# EAGLE library part STK-7125 (library ic)
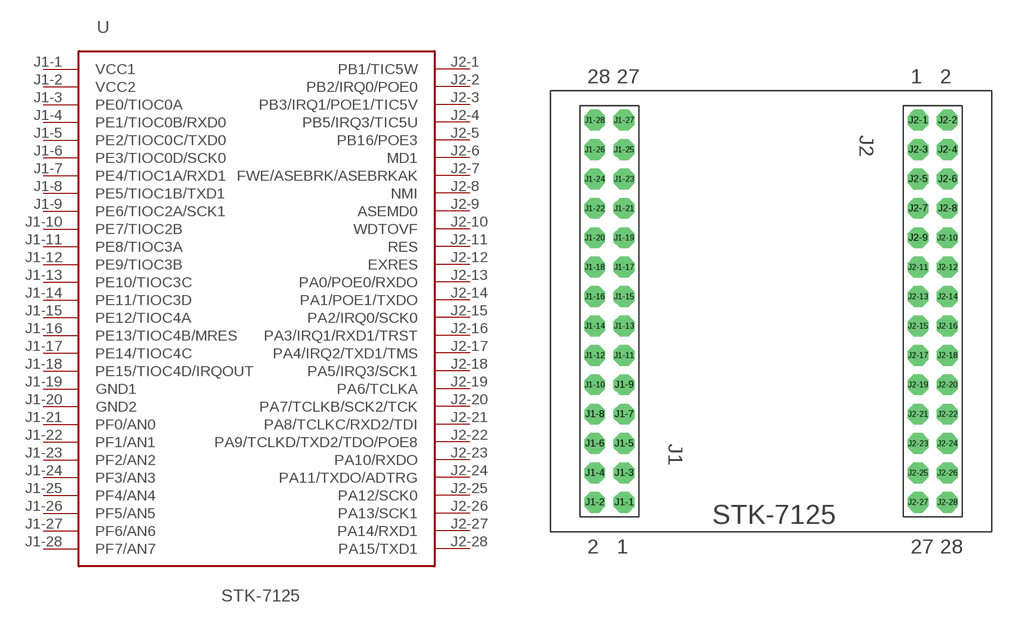
[diagram p6: symbol with the pads of STK-7125; footprint STK-7125]

Designator prefix -

## STK-7125  [STK-7125]
J1-1  VCC1  pwr
J1-2  VCC2  pwr
J1-3  PE0/TIOC0A
J1-4  PE1/TIOC0B/RXD0
J1-5  PE2/TIOC0C/TXD0
J1-6  PE3/TIOC0D/SCK0
J1-7  PE4/TIOC1A/RXD1
J1-8  PE5/TIOC1B/TXD1
J1-9  PE6/TIOC2A/SCK1
J1-10  PE7/TIOC2B
J1-11  PE8/TIOC3A
J1-12  PE9/TIOC3B
J1-13  PE10/TIOC3C
J1-14  PE11/TIOC3D
J1-15  PE12/TIOC4A
J1-16  PE13/TIOC4B/MRES
J1-17  PE14/TIOC4C
J1-18  PE15/TIOC4D/IRQOUT
J1-19  GND1  pwr
J1-20  GND2  pwr
J1-21  PF0/AN0
J1-22  PF1/AN1
J1-23  PF2/AN2
J1-24  PF3/AN3
J1-25  PF4/AN4
J1-26  PF5/AN5
J1-27  PF6/AN6
J1-28  PF7/AN7
J2-1  PB1/TIC5W
J2-2  PB2/IRQ0/POE0
J2-3  PB3/IRQ1/POE1/TIC5V
J2-4  PB5/IRQ3/TIC5U
J2-5  PB16/POE3
J2-6  MD1
J2-7  FWE/ASEBRK/ASEBRKAK
J2-8  NMI
J2-9  ASEMD0
J2-10  WDTOVF
J2-11  RES
J2-12  EXRES
J2-13  PA0/POE0/RXDO
J2-14  PA1/POE1/TXDO
J2-15  PA2/IRQ0/SCK0
J2-16  PA3/IRQ1/RXD1/TRST
J2-17  PA4/IRQ2/TXD1/TMS
J2-18  PA5/IRQ3/SCK1
J2-19  PA6/TCLKA
J2-20  PA7/TCLKB/SCK2/TCK
J2-21  PA8/TCLKC/RXD2/TDI
J2-22  PA9/TCLKD/TXD2/TDO/POE8
J2-23  PA10/RXDO
J2-24  PA11/TXDO/ADTRG
J2-25  PA12/SCK0
J2-26  PA13/SCK1
J2-27  PA14/RXD1
J2-28  PA15/TXD1

## Footprint STK-7125 (pad centres in mm)
drill 0.8 pad 1.8 octagon: J1-1 -12.7,-16.51; J1-2 -15.24,-16.51; J1-3 -12.7,-13.97; J1-4 -15.24,-13.97; J1-5 -12.7,-11.43; J1-6 -15.24,-11.43; J1-7 -12.7,-8.89; J1-8 -15.24,-8.89; J1-9 -12.7,-6.35; J1-10 -15.24,-6.35; J1-11 -12.7,-3.81; J1-12 -15.24,-3.81; J1-13 -12.7,-1.27; J1-14 -15.24,-1.27; J1-15 -12.7,1.27; J1-16 -15.24,1.27; J1-17 -12.7,3.81; J1-18 -15.24,3.81; J1-19 -12.7,6.35; J1-20 -15.24,6.35; J1-21 -12.7,8.89; J1-22 -15.24,8.89; J1-23 -12.7,11.43; J1-24 -15.24,11.43; J1-25 -12.7,13.97; J1-26 -15.24,13.97; J1-27 -12.7,16.51; J1-28 -15.24,16.51; J2-1 12.7,16.51; J2-2 15.24,16.51; J2-3 12.7,13.97; J2-4 15.24,13.97; J2-5 12.7,11.43; J2-6 15.24,11.43; J2-7 12.7,8.89; J2-8 15.24,8.89; J2-9 12.7,6.35; J2-10 15.24,6.35; J2-11 12.7,3.81; J2-12 15.24,3.81; J2-13 12.7,1.27; J2-14 15.24,1.27; J2-15 12.7,-1.27; J2-16 15.24,-1.27; J2-17 12.7,-3.81; J2-18 15.24,-3.81; J2-19 12.7,-6.35; J2-20 15.24,-6.35; J2-21 12.7,-8.89; J2-22 15.24,-8.89; J2-23 12.7,-11.43; J2-24 15.24,-11.43; J2-25 12.7,-13.97; J2-26 15.24,-13.97; J2-27 12.7,-16.51; J2-28 15.24,-16.51